# Altium schematic symbol library QUADCOPTER_Library.SchLib: 24 symbols
Pins are listed as number, name and electrical type; pins without a type are passive.

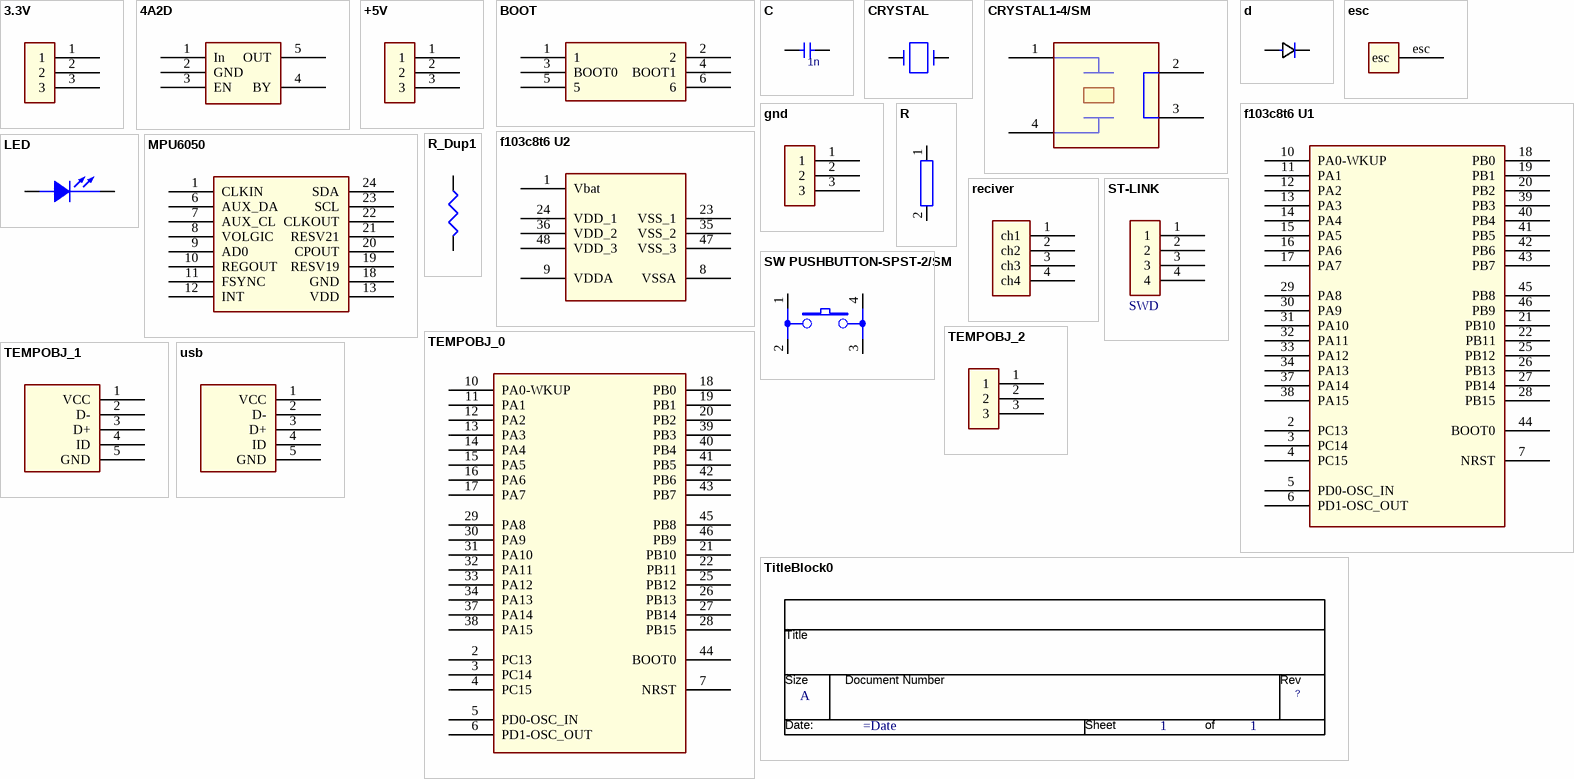
[diagram p0: symbols 3.3V to usb]

## 3.3V
designator U?
pins: 1, 2, 3

## 4A2D
designator U?
pins: 1 In, 2 GND, 3 EN, 4 BY, 5 OUT

## +5V
designator U?
pins: 1, 2, 3

## BOOT
designator U?
footprint BOOT
pins: 1, 2, 3 BOOT0, 4 BOOT1, 5, 6

## C
designator C?, comment 1n
VC2: 0; MAX_TEMP: CTMAX; SLOPE: CSMAX; KNEE: CBMAX; CURRENT: CIMAX; VOLTAGE: CMAX; PSpiceTemplate: C^@REFDES %1 %2 ?TOLERANCE|C^@REFDES| @VALUE ?IC/IC=@IC/ TC=@TC1,@TC2 ?TOLERANCE|\n.model C^@REFDES CAP C=1 DEV=@TOLERANCE% TC1=@TC1 TC2=@TC2 VC1=@VC1 VC2=@VC2|; DIST: FLAT; VC1: 0; TC1: 0; TC2: 0; Value: 1n
footprint RAD/CK05
simulation model C
pins: 1, 2

## CRYSTAL
designator Y?
pins: 1, 2

## CRYSTAL1-4/SM
designator Y?
pins: 1, 2, 3, 4

## d
designator D?  (value not drawn)
PSpiceTemplate: D^@REFDES %1 %2 @MODEL ~AREA|?AREA/@AREA/||@AREA|
simulation model d
pins: 0 1, 1 2

## esc
designator U?
pins: esc

## f103c8t6 U1
designator I?
pins: 2 PC13, 3 PC14, 4 PC15, 5 PD0-OSC_IN, 6 PD1-OSC_OUT, 7 NRST, 10 PA0-WKUP, 11 PA1, 12 PA2, 13 PA3, 14 PA4, 15 PA5, 16 PA6, 17 PA7, 18 PB0, 19 PB1, 20 PB2, 21 PB10, 22 PB11, 25 PB12, 26 PB13, 27 PB14, 28 PB15, 29 PA8, 30 PA9, 31 PA10, 32 PA11, 33 PA12, 34 PA13, 37 PA14, 38 PA15, 39 PB3, 40 PB4, 41 PB5, 42 PB6, 43 PB7, 44 BOOT0, 45 PB8, 46 PB9

## f103c8t6 U2
designator U2?
footprint stm32f103c8t6
pins: 1 Vbat, 8 VSSA, 9 VDDA, 23 VSS_1, 24 VDD_1, 35 VSS_2, 36 VDD_2, 47 VSS_3, 48 VDD_3

## gnd
designator U?
pins: 1, 2, 3

## LED
designator D?
pins: 1 CATHODE, 2 ANODE

## MPU6050
designator U?
pins: 1 CLKIN, 6 AUX_DA, 7 AUX_CL, 8 VOLGIC, 9 AD0, 10 REGOUT, 11 FSYNC, 12 INT, 13 VDD, 18 GND, 19 RESV19, 20 CPOUT, 21 RESV21, 22 CLKOUT, 23 SCL, 24 SDA

## R
designator R?
pins: 1, 2

## R_Dup1
designator R?
pins: 1, 2

## reciver
designator U?
pins: 1 ch1, 2 ch2, 3 ch3, 4 ch4

## ST-LINK
designator U?, comment SWD
pins: 1, 2, 3, 4

## SW PUSHBUTTON-SPST-2/SM
designator SW?
pins: 1, 2, 3, 4

## TEMPOBJ_0
designator I?
pins: 2 PC13, 3 PC14, 4 PC15, 5 PD0-OSC_IN, 6 PD1-OSC_OUT, 7 NRST, 10 PA0-WKUP, 11 PA1, 12 PA2, 13 PA3, 14 PA4, 15 PA5, 16 PA6, 17 PA7, 18 PB0, 19 PB1, 20 PB2, 21 PB10, 22 PB11, 25 PB12, 26 PB13, 27 PB14, 28 PB15, 29 PA8, 30 PA9, 31 PA10, 32 PA11, 33 PA12, 34 PA13, 37 PA14, 38 PA15, 39 PB3, 40 PB4, 41 PB5, 42 PB6, 43 PB7, 44 BOOT0, 45 PB8, 46 PB9

## TEMPOBJ_1
designator U?
pins: 1 VCC, 2 D-, 3 D+, 4 ID, 5 GND

## TEMPOBJ_2
designator U?
pins: 1, 2, 3

## TitleBlock0
designator *  Page Size: A  Page Number: 1  (hidden comment: *)  (graphical)
Page Create Date: March  8, 1995; RevCode: ?; Page Count: 1; Page Modify Date: =Date
text: Title; Size; Document Number; Rev; Date:; Sheet; of

## usb
designator U?
pins: 1 VCC, 2 D-, 3 D+, 4 ID, 5 GND